# EAGLE library part USB-FCI (library Airbeam)
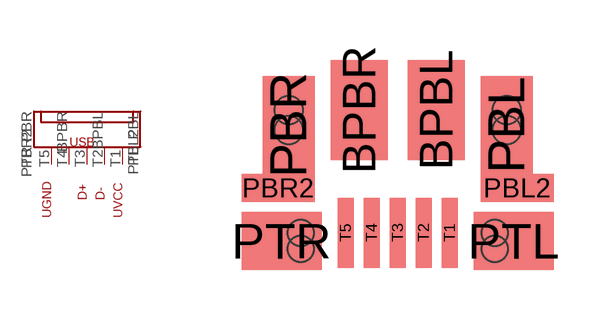
[diagram p1: symbol with the pads of USB-FCI; footprint USB-FCI]

Designator prefix -

## USB-FCI (PARTNO: 10103594-0001LF)  [USB-FCI]
BPBL  BPBL
BPBR  BPBR
PBL  PBL
PBL2  PBL2
PBR  PBR
PBR2  PBR2
PTL  PTL
PTR  PTR
T1  T1
T2  T2
T3  T3
T4  T4
T5  T5

## Footprint USB-FCI (pad centres in mm)
smd 1.425 x 2.5: BPBL 0.963,-1.25; BPBR -0.963,-1.25
smd 1.3 x 2.45: PBL 2.725,-1.625; PBR -2.725,-1.625
smd 1.825 x 0.7: PBL2 2.987,-3.2; PBR2 -2.987,-3.2
smd 2 x 1.46: PTL 2.9,-4.53; PTR -2.9,-4.53
smd 0.4 x 1.75: T1 1.3,-4.325; T2 0.65,-4.325; T3 0,-4.325; T4 -0.65,-4.325; T5 -1.3,-4.325
hole 0.7 at -2.725,-1.75
hole 0.7 at -2.725,-1.25
hole 0.65 at -2.425,-4.73
hole 0.65 at -2.425,-4.33
hole 0.7 at 2.725,-1.75
hole 0.7 at 2.725,-1.25
hole 0.65 at 2.425,-4.73
hole 0.65 at 2.425,-4.33